# Altium integrated library SatelliteDevBoard.IntLib: 10 symbols
Pins are listed as number, name and electrical type; pins without a type are passive.

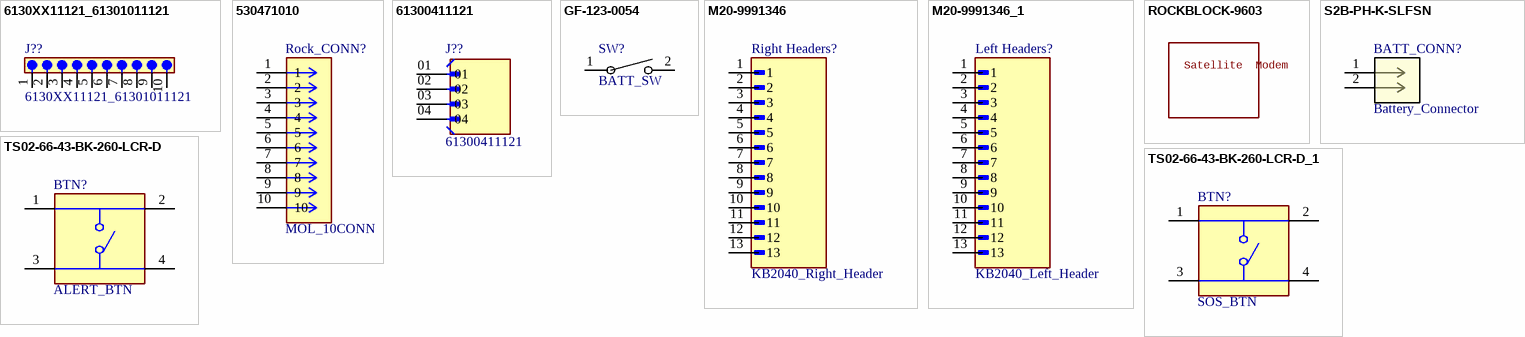
[diagram p0: symbols 6130XX11121_61301011121 to TS02-66-43-BK-260-LCR-D_1]

## 6130XX11121_61301011121
designator J??
10 pins, 1 row, straight, gold plating; MF: Wurth Elektronik; SnapEDA_Link: https://www.snapeda.com/parts/61301011121/Wurth+Electronics/view-part/?ref=snap; Package: None; Value: *; MP: 61301011121; Check_prices: https://www.snapeda.com/parts/61301011121/Wurth+Electronics/view-part/?ref=eda
footprint 61301011121
pins: 1, 2, 3, 4, 5, 6, 7, 8, 9, 10

## 530471010
designator Rock_CONN?, comment MOL_10CONN
Conn Shrouded Header (4 Sides) HDR 10 POS 1.25mm Solder ST Top Entry Thru-Hole PicoBladeâ„¢ Tray; MF: Molex; MP: 530471010; SnapEDA_Link: https://www.snapeda.com/parts/530471010/Molex/view-part/?ref=snap; Package: None; Value: *; Check_prices: https://www.snapeda.com/parts/530471010/Molex/view-part/?ref=eda
footprint CONN10_530471010_MOL
pins: 1, 2, 3, 4, 5, 6, 7, 8, 9, 10

## 61300411121
designator J??
Connector Header Through Hole 4 position 0.100 (2.54mm); MF: WÃ¼rth Elektronik; SnapEDA_Link: https://www.snapeda.com/parts/61300411121/W%25C3%25BCrth+Elektronik+Midcom/view-part/?ref=snap; Package: None; Value: *; MP: 61300411121; Check_prices: https://www.snapeda.com/parts/61300411121/W%25C3%25BCrth+Elektronik+Midcom/view-part/?ref=eda
footprint WURTH_61300411121
pins: 01, 02, 03, 04

## GF-123-0054
designator SW?, comment BATT_SW
Description; Manufacturer_Name: CW Industries; Manufacturer_Part_Number: GF-123-0054; Copyright: Copyright (C) 2025 Ultra Librarian. All rights reserved.
footprint SW2_GF-123-0054_CWI
pins: 1, 2

## M20-9991346
designator Right Headers?, comment KB2040_Right_Header
MP: M20-9991346; Package: None; Price: None; Value: *; Availability: Unavailable
footprint HARWIN_M20-9991346
pins: 1, 2, 3, 4, 5, 6, 7, 8, 9, 10, 11, 12, 13

## M20-9991346_1
designator Left Headers?, comment KB2040_Left_Header
MP: M20-9991346; Package: None; Price: None; Value: *; Availability: Unavailable
footprint HARWIN_M20-9991346
pins: 1, 2, 3, 4, 5, 6, 7, 8, 9, 10, 11, 12, 13

## ROCKBLOCK-9603
designator U$?  Satellite
Modem: Satellite / Modem  (hidden comment: ROCKBLOCK-9603)
GateName_1: G$1; SymbolName_1: SATMODEM; LibraryName: nootropicdesign; DeviceSetName: ROCKBLOCK-9603
footprint ROCKBLOCK-9603

## S2B-PH-K-SLFSN
designator BATT_CONN?, comment Battery_Connector
CONNECTOR; MALE; THROUGH HOLE; 2.0MM PITCH; DISCONNECTABLE CRIMP STYLE CONNECTOR; SIDE ENTRY TYPE; RIGHT ANGLE; 2PINS; Manufacturer_Name: JST; Manufacturer_Part_Number: S2B-PH-K-S(LF)(SN); Copyright: Copyright (C) 2025 Ultra Librarian. All rights reserved.; RefDes: RefDes; Type: Type
footprint CONN_S2B-PH-K-S_JST
pins: 1, 2

## TS02-66-43-BK-260-LCR-D
designator BTN?, comment ALERT_BTN
6 x 6 mm, 4.3 mm Actuator Height, 260 gf, Black, Long Crimped, Through Hole, SPST, Tactile Switch; MF: Same Sky; MP: TS02-66-43-BK-260-LCR-D; SnapEDA_Link: https://www.snapeda.com/parts/TS02-66-43-BK-260-LCR-D/Same+Sky/view-part/?ref=snap; Package: None; Value: *; Check_prices: https://www.snapeda.com/parts/TS02-66-43-BK-260-LCR-D/Same+Sky/view-part/?ref=eda
footprint SW_TS02-66-43-BK-260-LCR-D
pins: 1, 2, 3, 4

## TS02-66-43-BK-260-LCR-D_1
designator BTN?, comment SOS_BTN
6 x 6 mm, 4.3 mm Actuator Height, 260 gf, Black, Long Crimped, Through Hole, SPST, Tactile Switch; MF: Same Sky; MP: TS02-66-43-BK-260-LCR-D; SnapEDA_Link: https://www.snapeda.com/parts/TS02-66-43-BK-260-LCR-D/Same+Sky/view-part/?ref=snap; Package: None; Value: *; Check_prices: https://www.snapeda.com/parts/TS02-66-43-BK-260-LCR-D/Same+Sky/view-part/?ref=eda
footprint SW_TS02-66-43-BK-260-LCR-D
pins: 1, 2, 3, 4